# Altium schematic symbol library VPWL.Schlib: 1 symbol
Pins are listed as number, name and electrical type; pins without a type are passive.

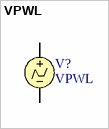
[diagram p0: symbol VPWL]

## VPWL
designator V?
Piecewise Linear Voltage Source
pins: 1, 2